# EAGLE library part JS202011SCQN (library JS202011SCQN)
JS202011SCQN - PCB DPDT Switch Specifications Manufacturer: C&K Switches Contact Form: DPDT Mounting Style: SMD Contact Current Rating: .3A/6V Mouser Part #: 611-JS202011SCQN <https://www.mouser.com/ProductDetail/CK/JS202011SCQN?qs=sGAEpiMZZMtHXLepoqNyVVoF19TbJQED2X%252bXJwW5kR8%3d>
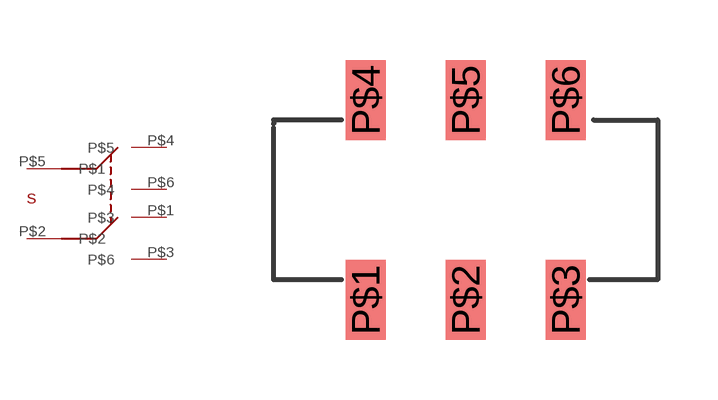
[diagram p0: symbol with the pads of JS202011SCQN; footprint JS202011SCQN]

Designator prefix S

## JS202011SCQN  [JS202011SCQN]
P$1  P$3
P$2  P$2
P$3  P$6
P$4  P$5
P$5  P$1
P$6  P$4

## Footprint JS202011SCQN (pad centres in mm)
smd 1 x 2: P$1 -2.5,-2.5; P$2 0,-2.5; P$3 2.5,-2.5; P$4 -2.5,2.5; P$5 0,2.5; P$6 2.5,2.5